# Altium footprint library components.PcbLib: 38 footprints (part 2 of 3)
Each footprint in its own frame and in the unit in brackets; x right, y up, seen from the top. Pads: shape width x height; smd on the part's side, far side on the other; paste and mask are expansions set on the pad; w line width, h text height; cw(c..) or ccw(c..) is an arc to the next point about the centre after c.
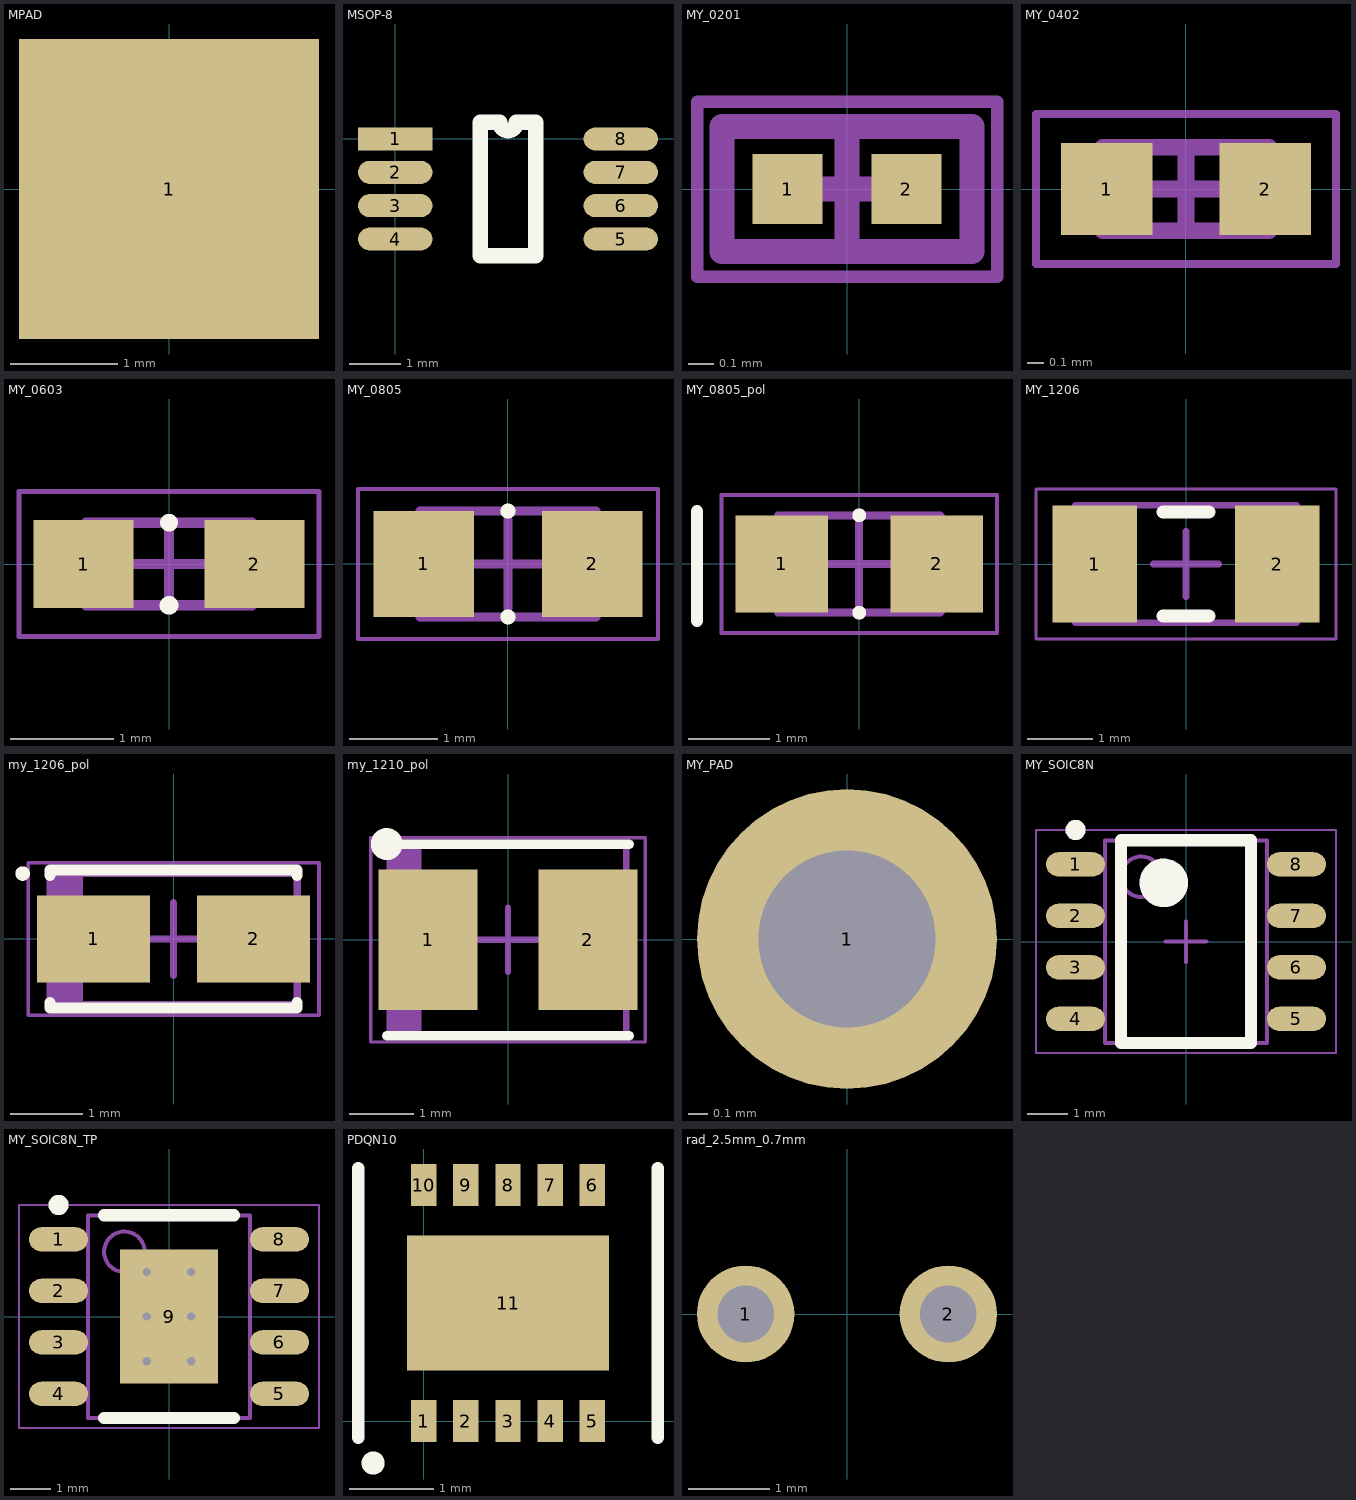
[diagram p1: the footprints below, top view; thin cyan lines are the x and y axes]

## MPAD [mm]
pads (1):
  rect 2.8x2.8 smd: 1(0,0)

## MSOP-8 [mm]
pads (8):
  rect 1.45x0.45 smd: 1(0,0)
  oval 1.45x0.45 smd: 2(0,-0.65) 3(0,-1.3) 4(0,-1.95) 5(4.4,-1.95) 6(4.4,-1.3) 7(4.4,-0.65) 8(4.4,0)
Top Overlay:
  lines w0.3: 1.66,-2.275 2.74,-2.275 2.74,0.325 2.362,0.325 cw(c2.2,0.325) 2.037,0.325 1.66,0.325 1.66,-2.275

## MY_4_4 [mm]

## MY_0201 [mm] "Chip Resistor, 2-Leads, Body 0.6x0.3mm, IPC Medium Density"
height 0.5
pads (2):
  rect 0.28x0.28 smd mask+0: 1(-0.238,0) 2(0.238,0)
Mechanical 13:
  lines w0.1: -0.5,-0.25 -0.5,0.25 0.5,0.25 0.5,-0.25 -0.5,-0.25
Mechanical 15:
  lines w0.05: -0.6,-0.35 -0.6,0.35 0.6,0.35 0.6,-0.35 -0.6,-0.35
  lines w0.1: -0.25,0 0.25,0 ; 0,-0.25 0,0.25
3D body: height 0.5, standoff 0, extent -0.27,-0.25 0.27,0.25
3D body: height 0.5, standoff 0, extent -0.5,-0.25 -0.27,0.25
3D body: height 0.5, standoff 0, extent 0.27,-0.25 0.5,0.25

## MY_0402 [mm] "Chip Resistor, 2-Leads, Body 1.00x0.50mm, IPC Medium Density"
height 0.5
pads (2):
  rect 0.55x0.55 smd mask+0: 1(-0.475,0) 2(0.475,0)
Mechanical 13:
  lines w0.1: -0.5,-0.25 0.5,-0.25 0.5,0.25 -0.5,0.25 -0.5,-0.25
Mechanical 15:
  lines w0.05: -0.9,-0.45 0.9,-0.45 0.9,0.45 -0.9,0.45 -0.9,-0.45
  lines w0.1: -0.25,0 0.25,0 ; 0,-0.25 0,0.25
3D body: height 0.5, standoff 0, extent 0.27,-0.25 0.5,0.25
3D body: height 0.5, standoff 0, extent -0.5,-0.25 -0.27,0.25
3D body: height 0.5, standoff 0, extent -0.27,-0.25 0.27,0.25

## MY_0603 [mm] "0603 without silkscreen issues"
height 3
pads (2):
  rect 0.965x0.85 smd: 1(-0.825,0) 2(0.825,0)
Top Overlay:
  circle w0.15: c0,0.4 r0.01
  circle w0.16: c0,-0.4 r0.01
Mechanical 13:
  lines w0.1: -0.8,-0.4 0.8,-0.4 0.8,0.4 -0.8,0.4 -0.8,-0.4
Mechanical 15:
  lines w0.05: -1.45,-0.7 1.45,-0.7 1.45,0.7 -1.45,0.7 -1.45,-0.7
  lines w0.1: -0.4,0 0.4,0 ; 0,-0.4 0,0.4
3D body: height 3, standoff 0, extent 0.5,-0.4 0.8,0.4
3D body: height 3, standoff 0, extent -0.8,-0.4 -0.5,0.4
3D body: height 3, standoff 0, extent -0.5,-0.4 0.5,0.4

## MY_0805 [mm] "0805 without silkscreen issues"
height 4
pads (2):
  rect 1.14x1.2 smd: 1(-0.955,0) 2(0.955,0)
Top Overlay:
  circle w0.15: c0,-0.6 r0.01
  circle w0.15: c0,0.6 r0.01
Mechanical 13:
  lines w0.1: -1,-0.6 -1,0.6 1,0.6 1,-0.6 -1,-0.6
Mechanical 15:
  lines w0.05: -1.7,-0.85 -1.7,0.85 1.7,0.85 1.7,-0.85 -1.7,-0.85
  lines w0.1: -0.5,0 0.5,0 ; 0,-0.5 0,0.5
3D body: height 4, standoff 0, extent -0.6,-0.6 0.6,0.6
3D body: height 4, standoff 0, extent -1,-0.6 -0.6,0.6
3D body: height 4, standoff 0, extent 0.6,-0.6 1,0.6

## MY_0805_pol [mm] "0805 without silkscreen issues"
height 4
pads (2):
  rect 1.14x1.2 smd: 1(-0.955,0) 2(0.955,0)
Top Overlay:
  circle w0.15: c0,0.6 r0.01
  circle w0.15: c0,-0.6 r0.01
  lines w0.15: -2,-0.7 -2,0.65
Mechanical 13:
  lines w0.1: -1,-0.6 1,-0.6 1,0.6 -1,0.6 -1,-0.6
Mechanical 15:
  lines w0.05: -1.7,-0.85 1.7,-0.85 1.7,0.85 -1.7,0.85 -1.7,-0.85
  lines w0.1: -0.5,0 0.5,0 ; 0,-0.5 0,0.5
3D body: height 4, standoff 0, extent 0.6,-0.6 1,0.6
3D body: height 4, standoff 0, extent -1,-0.6 -0.6,0.6
3D body: height 4, standoff 0, extent -0.6,-0.6 0.6,0.6

## MY_1206 [mm]
height 0.5
pads (2):
  rect 1.3x1.8 smd: 1(-1.4,0) 2(1.4,0)
Top Overlay:
  lines w0.2: -0.35,-0.8 0.35,-0.8 ; -0.35,0.8 0.35,0.8
Mechanical 13:
  lines w0.1: -1.7,-0.9 -1.7,0.9 1.7,0.9 1.7,-0.9 -1.7,-0.9
Mechanical 15:
  lines w0.05: -2.3,-1.15 -2.3,1.15 2.3,1.15 2.3,-1.15 -2.3,-1.15
  lines w0.1: -0.5,0 0.5,0 ; 0,-0.5 0,0.5
3D body: height 0.5, standoff 0, extent -1.2,-0.9 1.2,0.9
3D body: height 0.5, standoff 0, extent -1.7,-0.9 -1.2,0.9
3D body: height 0.5, standoff 0, extent 1.2,-0.9 1.7,0.9

## my_1206_pol [mm] "Molded Capacitor, 2-Leads, Body 3.20x1.65mm, IPC High Density"
height 1.6
pads (2):
  rect 1.55x1.2 smd: 1(-1.1,0) 2(1.1,0)
Top Overlay:
  circle w0.1: c-2.075,0.9 r0.05
  lines w0.15: -1.7,-0.875 -1.7,-0.95 1.7,-0.95 1.7,-0.875 ; -1.7,0.875 -1.7,0.95 1.7,0.95 1.7,0.875
Mechanical 13:
  rectangle: -1.7,-0.9 -1.243,0.9
  lines w0.1: -1.7,-0.9 1.7,-0.9 1.7,0.9 -1.7,0.9 -1.7,-0.9
Mechanical 15:
  lines w0.05: -2,-1.05 2,-1.05 2,1.05 -2,1.05 -2,-1.05
  lines w0.1: -0.5,0 0.5,0 ; 0,-0.5 0,0.5
3D body: height 1.6, standoff 0, extent -1.7,-0.9 1.7,0.9

## my_1210_pol [mm] "Molded Capacitor, 2-Leads, Body 3.50x2.80mm, IPC High Density"
height 1.9
pads (2):
  rect 1.55x2.2 smd: 1(-1.25,0) 2(1.25,0)
Top Overlay:
  circle w0.25: c-1.9,1.5 r0.125
  lines w0.15: -1.9,-1.5 1.9,-1.5 ; -1.9,1.5 1.9,1.5
Mechanical 13:
  rectangle: -1.85,-1.5 -1.352,1.5
  lines w0.1: -1.85,-1.5 -1.85,1.5 1.85,1.5 1.85,-1.5 -1.85,-1.5
Mechanical 15:
  lines w0.05: -2.15,-1.6 -2.15,1.6 2.15,1.6 2.15,-1.6 -2.15,-1.6
  lines w0.1: -0.5,0 0.5,0 ; 0,-0.5 0,0.5
3D body: height 1.9, standoff 0, extent -1.85,-1.5 1.85,1.5

## MY_PAD [mil]
pads (1):
  round 60 hole 35.43: 1(0,0)

## MY_SOIC8N [mm]
height 2.65
pads (8):
  oval 1.45x0.6 smd: 1(-2.725,1.905) 2(-2.725,0.635) 3(-2.725,-0.635) 4(-2.725,-1.905) 5(2.725,-1.905) 6(2.725,-0.635) 7(2.725,0.635) 8(2.725,1.905)
Top Overlay:
  circle w0.6: c-0.55,1.45 r0.3
  circle w0.25: c-2.725,2.755 r0.125
  lines w0.3: -1.6,-2.5 1.6,-2.5 1.6,2.5 -1.6,2.5 -1.6,-2.5
Mechanical 13:
  circle w0.1: c-1.1,1.6 r0.5
  lines w0.1: -2,-2.5 2,-2.5 2,2.5 -2,2.5 -2,-2.5
Mechanical 15:
  lines w0.05: -3.7,-2.75 3.7,-2.75 3.7,2.75 -3.7,2.75 -3.7,-2.75
  lines w0.1: -0.5,0 0.5,0 ; 0,-0.5 0,0.5
3D body: height 2.65, standoff 0.1, extent -2,-2.5 2,2.5

## MY_SOIC8N_TP [mm] "SOIC, 8-Leads, Body 4.90x3.90mm, Pitch 1.27mm, Thermal Pad 3.30x2.41mm, IPC Medium Density"
height 2.65
pads (9):
  oval 1.45x0.6 smd: 1(-2.725,1.905) 2(-2.725,0.635) 3(-2.725,-0.635) 4(-2.725,-1.905) 5(2.725,-1.905) 6(2.725,-0.635) 7(2.725,0.635) 8(2.725,1.905)
  rect 2.41x3.3 smd: 9(0,0)
via -0.55,1.1 diameter 0.5 hole 0.2
via 0.55,1.1 diameter 0.5 hole 0.2
via -0.55,0 diameter 0.5 hole 0.2
via 0.55,0 diameter 0.5 hole 0.2
via -0.55,-1.1 diameter 0.5 hole 0.2
via 0.55,-1.1 diameter 0.5 hole 0.2
Top Overlay:
  circle w0.25: c-2.725,2.755 r0.125
  lines w0.3: -1.6,-2.5 1.6,-2.5 ; -1.6,2.5 1.6,2.5
Mechanical 13:
  circle w0.1: c-1.1,1.6 r0.5
  lines w0.1: -2,-2.5 -2,2.5 2,2.5 2,-2.5 -2,-2.5
Mechanical 15:
  lines w0.05: -3.7,-2.75 -3.7,2.75 3.7,2.75 3.7,-2.75 -3.7,-2.75
  lines w0.1: -0.5,0 0.5,0 ; 0,-0.5 0,0.5
3D body: height 2.65, standoff 0.1, extent -2,-2.5 2,2.5

## PDQN10 [mm]
pads (11):
  rect 0.3x0.5 smd mask+0: 1(0,0) 2(0.5,0) 3(1,0) 4(1.5,0) 5(2,0) 6(2,2.8) 7(1.5,2.8) 8(1,2.8) 9(0.5,2.8) 10(0,2.8)
  rect 2.4x1.6 smd mask+0: 11(1,1.4)
Top Overlay:
  circle w0.254: c-0.6,-0.5 r0.01
  lines w0.15: -0.775,-0.2 -0.775,1.4 ; -0.775,0.8 -0.775,3 ; 2.775,-0.2 2.775,1.4 ; 2.775,1.3 2.775,3

## rad_2.5mm_0.7mm [mm] "alu cap 2.5mm between leeds 0.7mm lead d"
pads (2):
  round 1.2 hole 0.7: 1(-1.25,0) 2(1.25,0)